# Altium footprint library TPS630250RNCR.PcbLib: 1 footprints
Each footprint in its own frame and in the unit in brackets; x right, y up, seen from the top. Pads: shape width x height; smd on the part's side, far side on the other; paste and mask are expansions set on the pad; w line width, h text height; cw(c..) or ccw(c..) is an arc to the next point about the centre after c.
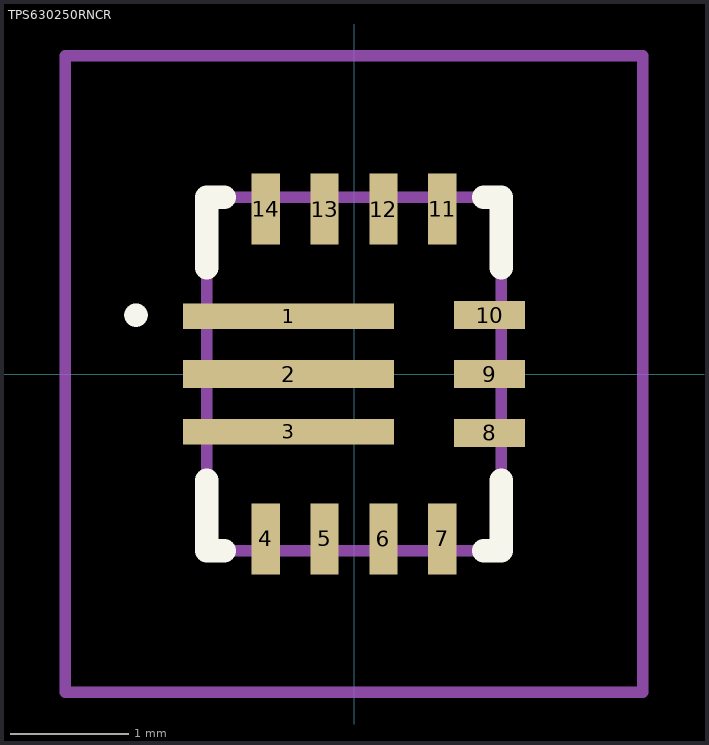
[diagram p0: the footprint, top view; thin cyan lines are the x and y axes]

## TPS630250RNCR [mm]
pads (14):
  rect 1.79x0.22 smd: 1(-0.555,0.49) 3(-0.555,-0.49)
  rect 1.79x0.24 smd: 2(-0.555,0)
  rect 0.24x0.6 smd: 4(-0.75,-1.4) 5(-0.25,-1.4) 6(0.25,-1.4) 7(0.75,-1.4) 11(0.75,1.4) 12(0.25,1.4) 13(-0.25,1.4) 14(-0.75,1.4)
  rect 0.6x0.24 smd: 8(1.15,-0.5) 9(1.15,0) 10(1.15,0.5)
Top Overlay:
  lines w0.1: -1.9,0.5 cw(c-1.85,0.5) -1.8,0.5 ; -1.9,0.5 -1.9,0.5 ; -1.9,0.5 ccw(c-1.85,0.5) -1.8,0.5 ; -1.8,0.5 -1.8,0.5
  lines w0.2: -1.25,-0.9 -1.25,-1.5 -1.1,-1.5 ; -1.25,0.9 -1.25,1.5 -1.1,1.5 ; 1.1,-1.5 1.25,-1.5 1.25,-0.9 ; 1.1,1.5 1.25,1.5 1.25,0.9
Mechanical 15:
  lines w0.1: -1.25,-1.5 1.25,-1.5 1.25,1.5 -1.25,1.5 -1.25,-1.5
Mechanical 20:
  lines w0.1: -2.45,-2.7 2.45,-2.7 2.45,2.7 -2.45,2.7 -2.45,-2.7